# EAGLE library part DOUBLE-SEGMEN (library FansElectronics-7Segmen)
Dual 7 Segmen Tersedia Ukuran 0.56", 1"
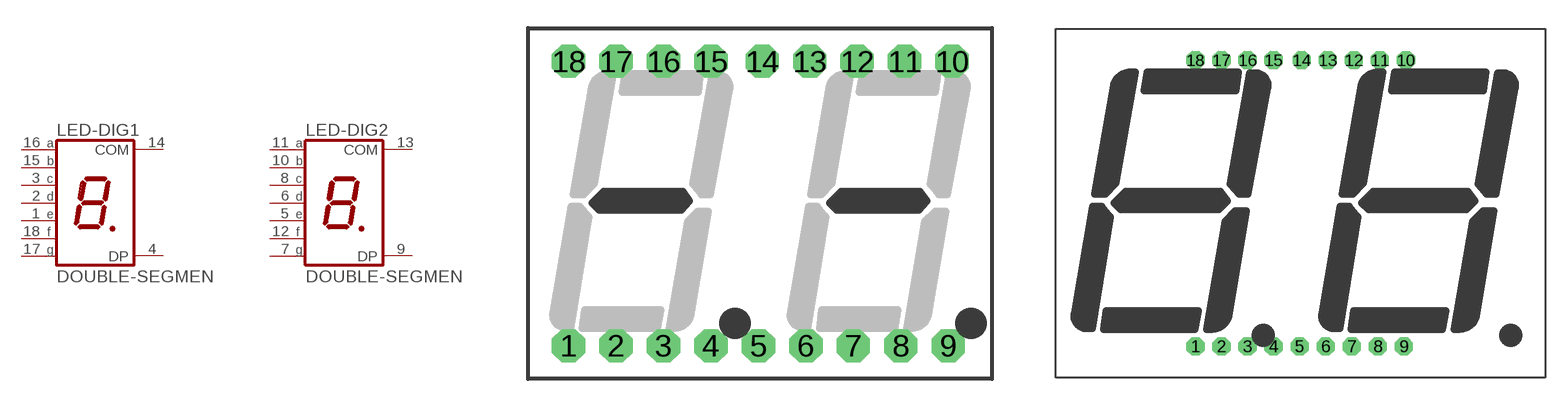
[diagram p0: symbol with the pads of DOUBLE-056; footprints DOUBLE-056, DOUBLE-1]

Designator prefix LED; gates -DIG1=7SEG-1COM -DIG2=7SEG-1COM

## DOUBLE-SEGMEN-056"  [DOUBLE-056]
1  -DIG1:E  pas
2  -DIG1:D  pas
3  -DIG1:C  pas
4  -DIG1:DP  pas
5  -DIG2:E  pas
6  -DIG2:D  pas
7  -DIG2:G  pas
8  -DIG2:C  pas
9  -DIG2:DP  pas
10  -DIG2:B  pas
11  -DIG2:A  pas
12  -DIG2:F  pas
13  -DIG2:COM  pas
14  -DIG1:COM  pas
15  -DIG1:B  pas
16  -DIG1:A  pas
17  -DIG1:G  pas
18  -DIG1:F  pas

## DOUBLE-SEGMEN-1"  [DOUBLE-1]
Pads as for DOUBLE-056

## Footprint DOUBLE-056 (pad centres in mm)
drill 0.8 pad 1.778 octagon: 1 -10.26,-7.62; 2 -7.72,-7.62; 3 -5.18,-7.62; 4 -2.64,-7.62; 5 -0.1,-7.62; 6 2.44,-7.62; 7 4.98,-7.62; 8 7.52,-7.62; 9 10.06,-7.62; 10 10.26,7.62; 11 7.72,7.62; 12 5.18,7.62; 13 2.64,7.62; 14 0.1,7.62; 15 -2.64,7.62; 16 -5.18,7.62; 17 -7.72,7.62; 18 -10.26,7.62

## Footprint DOUBLE-1 (pad centres in mm)
drill 0.8 pad 1.778 octagon: 1 -10.26,-13.97; 2 -7.72,-13.97; 3 -5.18,-13.97; 4 -2.64,-13.97; 5 -0.1,-13.97; 6 2.44,-13.97; 7 4.98,-13.97; 8 7.52,-13.97; 9 10.06,-13.97; 10 10.26,13.97; 11 7.72,13.97; 12 5.18,13.97; 13 2.64,13.97; 14 0.1,13.97; 15 -2.64,13.97; 16 -5.18,13.97; 17 -7.72,13.97; 18 -10.26,13.97